# Altium footprint library WR-PHD_Socket Header_1.27mm.PcbLib: 24 footprints (part 1 of 2)
Each footprint in its own frame and in the unit in brackets; x right, y up, seen from the top. Pads: shape width x height; smd on the part's side, far side on the other; paste and mask are expansions set on the pad; w line width, h text height; cw(c..) or ccw(c..) is an arc to the next point about the centre after c.
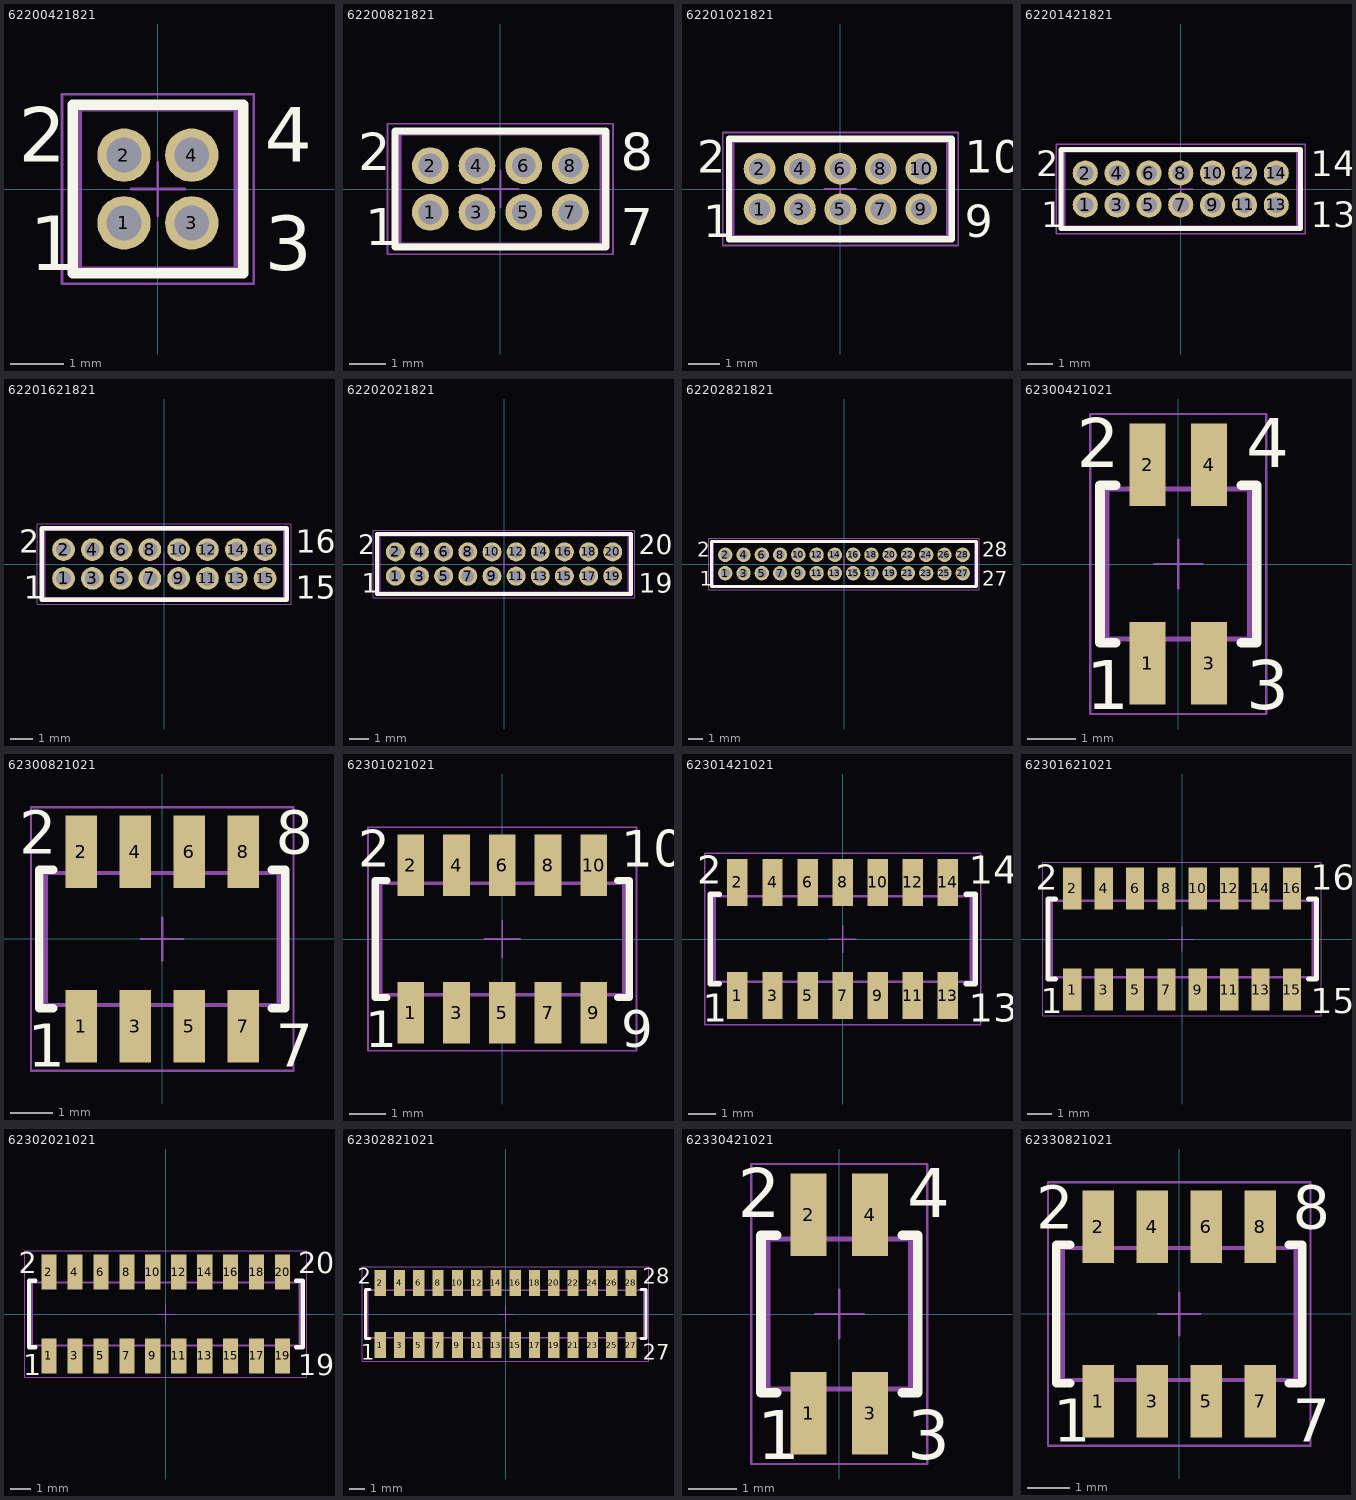
[diagram p0: the footprints below, top view; thin cyan lines are the x and y axes]

## 62200421821 [mm] "Socket Header, Pitch 1.27 mm, THT, Vertical, dual row, 4p"
height 4.65
pads (4):
  round 1 hole 0.65: 1(-0.635,-0.635) 2(-0.635,0.635) 3(0.635,-0.635) 4(0.635,0.635)
Top Overlay:
  lines w0.2: -1.595,-1.575 -1.595,1.575 1.595,1.575 1.595,-1.575 -1.595,-1.575
  text "1" at -2.4,-1.523 h1.02
  text "3" at 2,-1.523 h1.02
  text "2" at -2.6,0.507 h1.02
  text "4" at 2,0.507 h1.02
Mechanical 13:
  lines w0.1: -1.47,-1.5 1.47,-1.5 1.47,1.5 -1.47,1.5 -1.47,-1.5
Mechanical 15:
  lines w0.05: -0.5,0 0.5,0 ; 0,-0.5 0,0.5 ; -1.795,-1.775 -1.795,1.775 1.795,1.775 1.795,-1.775 -1.795,-1.775
3D body "62200421821.stp": height 4.55, standoff -2.15, extent -1.47,-1.5 1.47,1.5

## 62200821821 [mm] "Socket Header, Pitch 1.27 mm, THT, Vertical, dual row, 8p"
height 4.65
pads (8):
  round 1 hole 0.65: 1(-1.905,-0.635) 2(-1.905,0.635) 3(-0.635,-0.635) 4(-0.635,0.635) 5(0.635,-0.635) 6(0.635,0.635) 7(1.905,-0.635) 8(1.905,0.635)
Top Overlay:
  lines w0.2: -2.865,-1.575 -2.865,1.575 2.865,1.575 2.865,-1.575 -2.865,-1.575
  text "1" at -3.67,-1.523 h1.02
  text "2" at -3.87,0.507 h1.02
  text "8" at 3.27,0.507 h1.02
  text "7" at 3.27,-1.523 h1.02
Mechanical 13:
  lines w0.1: -2.74,-1.5 2.74,-1.5 2.74,1.5 -2.74,1.5 -2.74,-1.5
Mechanical 15:
  lines w0.05: -0.5,0 0.5,0 ; 0,-0.5 0,0.5 ; -3.065,-1.775 -3.065,1.775 3.065,1.775 3.065,-1.775 -3.065,-1.775
3D body "62200821821.stp": height 4.55, standoff -2.15, extent -2.74,-1.5 2.74,1.5

## 62201021821 [mm] "Socket Header, Pitch 1.27 mm, THT, Vertical, dual row, 10p"
height 4.65
pads (10):
  round 1 hole 0.65: 1(-2.54,-0.635) 2(-2.54,0.635) 3(-1.27,-0.635) 4(-1.27,0.635) 5(0,-0.635) 6(0,0.635) 7(1.27,-0.635) 8(1.27,0.635) 9(2.54,-0.635) 10(2.54,0.635)
Top Overlay:
  lines w0.2: -3.5,-1.575 3.5,-1.575 3.5,1.575 -3.5,1.575 -3.5,-1.575
  text "9" at 3.905,-1.523 h1.02
  text "10" at 3.905,0.507 h1.02
  text "2" at -4.505,0.507 h1.02
  text "1" at -4.305,-1.523 h1.02
Mechanical 13:
  lines w0.1: -3.375,-1.5 -3.375,1.5 3.375,1.5 3.375,-1.5 -3.375,-1.5
Mechanical 15:
  lines w0.05: -0.5,0 0.5,0 ; 0,-0.5 0,0.5 ; -3.7,-1.775 3.7,-1.775 3.7,1.775 -3.7,1.775 -3.7,-1.775
3D body "62201021821.stp": height 4.55, standoff -2.15, extent -3.375,-1.5 3.375,1.5

## 62201421821 [mm] "Socket Header, Pitch 1.27 mm, THT, Vertical, dual row, 14p"
height 4.65
pads (14):
  round 1 hole 0.65: 1(-3.81,-0.635) 2(-3.81,0.635) 3(-2.54,-0.635) 4(-2.54,0.635) 5(-1.27,-0.635) 6(-1.27,0.635) 7(0,-0.635) 8(0,0.635) 9(1.27,-0.635) 10(1.27,0.635) 11(2.54,-0.635) 12(2.54,0.635) 13(3.81,-0.635) 14(3.81,0.635)
Top Overlay:
  lines w0.2: -4.77,-1.575 4.77,-1.575 4.77,1.575 -4.77,1.575 -4.77,-1.575
  text "2" at -5.775,0.507 h1.02
  text "1" at -5.575,-1.523 h1.02
  text "14" at 5.175,0.507 h1.02
  text "13" at 5.175,-1.523 h1.02
Mechanical 13:
  lines w0.1: -4.645,-1.5 -4.645,1.5 4.645,1.5 4.645,-1.5 -4.645,-1.5
Mechanical 15:
  lines w0.05: -0.5,0 0.5,0 ; 0,-0.5 0,0.5 ; -4.97,-1.775 4.97,-1.775 4.97,1.775 -4.97,1.775 -4.97,-1.775
3D body "62201421821.stp": height 4.55, standoff -2.15, extent -4.645,-1.5 4.645,1.5

## 62201621821 [mm] "Socket Header, Pitch 1.27 mm, THT, Vertical, dual row, 16p"
height 4.65
pads (16):
  round 1 hole 0.65: 1(-4.445,-0.635) 2(-4.445,0.635) 3(-3.175,-0.635) 4(-3.175,0.635) 5(-1.905,-0.635) 6(-1.905,0.635) 7(-0.635,-0.635) 8(-0.635,0.635) 9(0.635,-0.635) 10(0.635,0.635) 11(1.905,-0.635) 12(1.905,0.635) 13(3.175,-0.635) 14(3.175,0.635) 15(4.445,-0.635) 16(4.445,0.635)
Top Overlay:
  lines w0.2: -5.405,-1.575 5.405,-1.575 5.405,1.575 -5.405,1.575 -5.405,-1.575
  text "15" at 5.81,-1.523 h1.02
  text "16" at 5.81,0.507 h1.02
  text "2" at -6.41,0.507 h1.02
  text "1" at -6.21,-1.523 h1.02
Mechanical 13:
  lines w0.1: -5.28,-1.5 -5.28,1.5 5.28,1.5 5.28,-1.5 -5.28,-1.5
Mechanical 15:
  lines w0.05: -0.5,0 0.5,0 ; 0,-0.5 0,0.5 ; -5.605,-1.775 5.605,-1.775 5.605,1.775 -5.605,1.775 -5.605,-1.775
3D body "62201621821.stp": height 4.55, standoff -2.15, extent -5.28,-1.5 5.28,1.5

## 62202021821 [mm] "Socket Header, Pitch 1.27 mm, THT, Vertical, dual row, 20p"
height 4.65
pads (20):
  round 1 hole 0.65: 1(-5.715,-0.635) 2(-5.715,0.635) 3(-4.445,-0.635) 4(-4.445,0.635) 5(-3.175,-0.635) 6(-3.175,0.635) 7(-1.905,-0.635) 8(-1.905,0.635) 9(-0.635,-0.635) 10(-0.635,0.635) 11(0.635,-0.635) 12(0.635,0.635) 13(1.905,-0.635) 14(1.905,0.635) 15(3.175,-0.635) 16(3.175,0.635) 17(4.445,-0.635) 18(4.445,0.635) 19(5.715,-0.635) 20(5.715,0.635)
Top Overlay:
  lines w0.2: -6.675,-1.575 -6.675,1.575 6.675,1.575 6.675,-1.575 -6.675,-1.575
  text "19" at 7.08,-1.523 h1.02
  text "20" at 7.08,0.507 h1.02
  text "1" at -7.48,-1.523 h1.02
  text "2" at -7.68,0.507 h1.02
Mechanical 13:
  lines w0.1: -6.55,-1.5 6.55,-1.5 6.55,1.5 -6.55,1.5 -6.55,-1.5
Mechanical 15:
  lines w0.05: -0.5,0 0.5,0 ; 0,-0.5 0,0.5 ; -6.875,-1.775 -6.875,1.775 6.875,1.775 6.875,-1.775 -6.875,-1.775
3D body "62202021821.stp": height 4.55, standoff -2.15, extent -6.55,-1.5 6.55,1.5

## 62202821821 [mm] "Socket Header, Pitch 1.27 mm, THT, Vertical, dual row, 28p"
height 4.65
pads (28):
  round 1 hole 0.65: 1(-8.255,-0.635) 2(-8.255,0.635) 3(-6.985,-0.635) 4(-6.985,0.635) 5(-5.715,-0.635) 6(-5.715,0.635) 7(-4.445,-0.635) 8(-4.445,0.635) 9(-3.175,-0.635) 10(-3.175,0.635) 11(-1.905,-0.635) 12(-1.905,0.635) 13(-0.635,-0.635) 14(-0.635,0.635) 15(0.635,-0.635) 16(0.635,0.635) 17(1.905,-0.635) 18(1.905,0.635) 19(3.175,-0.635) 20(3.175,0.635) 21(4.445,-0.635) 22(4.445,0.635) 23(5.715,-0.635) 24(5.715,0.635) 25(6.985,-0.635) 26(6.985,0.635) 27(8.255,-0.635) 28(8.255,0.635)
Top Overlay:
  lines w0.2: -9.215,-1.575 -9.215,1.575 9.215,1.575 9.215,-1.575 -9.215,-1.575
  text "27" at 9.62,-1.523 h1.02
  text "28" at 9.62,0.507 h1.02
  text "1" at -10.02,-1.523 h1.02
  text "2" at -10.22,0.507 h1.02
Mechanical 13:
  lines w0.1: -9.09,-1.5 9.09,-1.5 9.09,1.5 -9.09,1.5 -9.09,-1.5
Mechanical 15:
  lines w0.05: -0.5,0 0.5,0 ; 0,-0.5 0,0.5 ; -9.415,-1.775 -9.415,1.775 9.415,1.775 9.415,-1.775 -9.415,-1.775
3D body "62202821821.stp": height 4.55, standoff -2.15, extent -9.09,-1.5 9.09,1.5

## 62300421021 [mm] "Socket Header, Pitch 1.27 mm, SMT, Vertical, dual row, 4p"
height 4.7
pads (4):
  rect 0.74x1.7 smd: 1(-0.635,-2.05) 2(-0.635,2.05) 3(0.635,-2.05) 4(0.635,2.05)
Top Overlay:
  lines w0.2: -1.3,-1.625 -1.62,-1.625 -1.62,1.625 -1.3,1.625 ; 1.3,-1.625 1.62,-1.625 1.62,1.625 1.3,1.625
  text "1" at -1.9,-3 h1.02
  text "3" at 1.4,-3 h1.02
  text "2" at -2.1,2 h1.02
  text "4" at 1.4,2 h1.02
Mechanical 13:
  lines w0.1: -0.885,-1.55 -0.885,-2.3 -0.385,-2.3 -0.385,-1.55 ; -0.885,1.55 -0.885,2.3 -0.385,2.3 -0.385,1.55 ; 0.385,-1.55 0.385,-2.3 0.885,-2.3 0.885,-1.55 ; 0.385,1.55 0.385,2.3 0.885,2.3 0.885,1.55 ; -1.47,-1.55 -1.47,1.55 1.47,1.55 1.47,-1.55 -1.47,-1.55
Mechanical 15:
  lines w0.05: -0.5,0 0.5,0 ; 0,-0.5 0,0.5 ; -1.82,-3.1 1.82,-3.1 1.82,3.1 -1.82,3.1 -1.82,-3.1
3D body "62300421021.stp": height 4.6, standoff 0, extent -1.47,-2.299 1.47,2.299

## 62300821021 [mm] "Socket Header, Pitch 1.27 mm, SMT, Vertical, dual row, 8p"
height 4.7
pads (8):
  rect 0.74x1.7 smd: 1(-1.905,-2.05) 2(-1.905,2.05) 3(-0.635,-2.05) 4(-0.635,2.05) 5(0.635,-2.05) 6(0.635,2.05) 7(1.905,-2.05) 8(1.905,2.05)
Top Overlay:
  lines w0.2: -2.57,-1.625 -2.89,-1.625 -2.89,1.625 -2.57,1.625 ; 2.57,-1.625 2.89,-1.625 2.89,1.625 2.57,1.625
  text "8" at 2.67,2 h1.02
  text "7" at 2.67,-3 h1.02
  text "1" at -3.17,-3 h1.02
  text "2" at -3.37,2 h1.02
Mechanical 13:
  lines w0.1: -2.155,-1.55 -2.155,-2.3 -1.655,-2.3 -1.655,-1.55 ; -2.155,1.55 -2.155,2.3 -1.655,2.3 -1.655,1.55 ; -0.885,-1.55 -0.885,-2.3 -0.385,-2.3 -0.385,-1.55 ; -0.885,1.55 -0.885,2.3 -0.385,2.3 -0.385,1.55 ; 0.385,-1.55 0.385,-2.3 0.885,-2.3 0.885,-1.55 ; 0.385,1.55 0.385,2.3 0.885,2.3 0.885,1.55 ; 1.655,-1.55 1.655,-2.3 2.155,-2.3 2.155,-1.55 ; 1.655,1.55 1.655,2.3 2.155,2.3 2.155,1.55 ; -2.74,-1.55 -2.74,1.55 2.74,1.55 2.74,-1.55 -2.74,-1.55
Mechanical 15:
  lines w0.05: -0.5,0 0.5,0 ; 0,-0.5 0,0.5 ; -3.09,-3.1 3.09,-3.1 3.09,3.1 -3.09,3.1 -3.09,-3.1
3D body "62300821021.stp": height 4.6, standoff 0, extent -2.74,-2.299 2.74,2.299

## 62301021021 [mm] "Socket Header, Pitch 1.27 mm, SMT, Vertical, dual row, 10p"
height 4.7
pads (10):
  rect 0.74x1.7 smd: 1(-2.54,-2.05) 2(-2.54,2.05) 3(-1.27,-2.05) 4(-1.27,2.05) 5(0,-2.05) 6(0,2.05) 7(1.27,-2.05) 8(1.27,2.05) 9(2.54,-2.05) 10(2.54,2.05)
Top Overlay:
  lines w0.2: -3.205,-1.625 -3.525,-1.625 -3.525,1.625 -3.205,1.625 ; 3.205,-1.625 3.525,-1.625 3.525,1.625 3.205,1.625
  text "2" at -4.005,2 h1.02
  text "1" at -3.805,-3 h1.02
  text "9" at 3.305,-3 h1.02
  text "10" at 3.305,2 h1.02
Mechanical 13:
  lines w0.1: -2.79,-1.55 -2.79,-2.3 -2.29,-2.3 -2.29,-1.55 ; -2.79,1.55 -2.79,2.3 -2.29,2.3 -2.29,1.55 ; -1.52,-1.55 -1.52,-2.3 -1.02,-2.3 -1.02,-1.55 ; -1.52,1.55 -1.52,2.3 -1.02,2.3 -1.02,1.55 ; -0.25,-1.55 -0.25,-2.3 0.25,-2.3 0.25,-1.55 ; -0.25,1.55 -0.25,2.3 0.25,2.3 0.25,1.55 ; 1.02,-1.55 1.02,-2.3 1.52,-2.3 1.52,-1.55 ; 1.02,1.55 1.02,2.3 1.52,2.3 1.52,1.55 ; 2.29,-1.55 2.29,-2.3 2.79,-2.3 2.79,-1.55 ; 2.29,1.55 2.29,2.3 2.79,2.3 2.79,1.55 ; -3.375,-1.55 3.375,-1.55 3.375,1.55 -3.375,1.55 -3.375,-1.55
Mechanical 15:
  lines w0.05: -0.5,0 0.5,0 ; 0,-0.5 0,0.5 ; -3.725,-3.1 -3.725,3.1 3.725,3.1 3.725,-3.1 -3.725,-3.1
3D body "62301021021.stp": height 4.6, standoff 0, extent -3.375,-2.299 3.375,2.299

## 62301421021 [mm] "Socket Header, Pitch 1.27 mm, SMT, Vertical, dual row, 14p"
height 4.7
pads (14):
  rect 0.74x1.7 smd: 1(-3.81,-2.05) 2(-3.81,2.05) 3(-2.54,-2.05) 4(-2.54,2.05) 5(-1.27,-2.05) 6(-1.27,2.05) 7(0,-2.05) 8(0,2.05) 9(1.27,-2.05) 10(1.27,2.05) 11(2.54,-2.05) 12(2.54,2.05) 13(3.81,-2.05) 14(3.81,2.05)
Top Overlay:
  lines w0.2: -4.475,-1.625 -4.795,-1.625 -4.795,1.625 -4.475,1.625 ; 4.475,-1.625 4.795,-1.625 4.795,1.625 4.475,1.625
  text "1" at -5.075,-3 h1.02
  text "2" at -5.275,2 h1.02
  text "13" at 4.575,-3 h1.02
  text "14" at 4.575,2 h1.02
Mechanical 13:
  lines w0.1: -4.06,-1.55 -4.06,-2.3 -3.56,-2.3 -3.56,-1.55 ; -4.06,1.55 -4.06,2.3 -3.56,2.3 -3.56,1.55 ; -2.79,-1.55 -2.79,-2.3 -2.29,-2.3 -2.29,-1.55 ; -2.79,1.55 -2.79,2.3 -2.29,2.3 -2.29,1.55 ; -1.52,-1.55 -1.52,-2.3 -1.02,-2.3 -1.02,-1.55 ; -1.52,1.55 -1.52,2.3 -1.02,2.3 -1.02,1.55 ; -0.25,-1.55 -0.25,-2.3 0.25,-2.3 0.25,-1.55 ; -0.25,1.55 -0.25,2.3 0.25,2.3 0.25,1.55 ; 1.02,-1.55 1.02,-2.3 1.52,-2.3 1.52,-1.55 ; 1.02,1.55 1.02,2.3 1.52,2.3 1.52,1.55 ; 2.29,-1.55 2.29,-2.3 2.79,-2.3 2.79,-1.55 ; 2.29,1.55 2.29,2.3 2.79,2.3 2.79,1.55 ; 3.56,-1.55 3.56,-2.3 4.06,-2.3 4.06,-1.55 ; 3.56,1.55 3.56,2.3 4.06,2.3 4.06,1.55 ; -4.645,-1.55 -4.645,1.55 4.645,1.55 4.645,-1.55 -4.645,-1.55
Mechanical 15:
  lines w0.05: -0.5,0 0.5,0 ; 0,-0.5 0,0.5 ; -4.995,-3.1 4.995,-3.1 4.995,3.1 -4.995,3.1 -4.995,-3.1
3D body "62301421021.stp": height 4.6, standoff 0, extent -4.645,-2.299 4.645,2.299

## 62301621021 [mm] "Socket Header, Pitch 1.27 mm, SMT, Vertical, dual row, 16p"
height 4.7
pads (16):
  rect 0.74x1.7 smd: 1(-4.445,-2.05) 2(-4.445,2.05) 3(-3.175,-2.05) 4(-3.175,2.05) 5(-1.905,-2.05) 6(-1.905,2.05) 7(-0.635,-2.05) 8(-0.635,2.05) 9(0.635,-2.05) 10(0.635,2.05) 11(1.905,-2.05) 12(1.905,2.05) 13(3.175,-2.05) 14(3.175,2.05) 15(4.445,-2.05) 16(4.445,2.05)
Top Overlay:
  lines w0.2: -5.11,-1.625 -5.43,-1.625 -5.43,1.625 -5.11,1.625 ; 5.11,-1.625 5.43,-1.625 5.43,1.625 5.11,1.625
  text "1" at -5.71,-3 h1.02
  text "2" at -5.91,2 h1.02
  text "15" at 5.21,-3 h1.02
  text "16" at 5.21,2 h1.02
Mechanical 13:
  lines w0.1: -4.695,-1.55 -4.695,-2.3 -4.195,-2.3 -4.195,-1.55 ; -4.695,1.55 -4.695,2.3 -4.195,2.3 -4.195,1.55 ; -3.425,-1.55 -3.425,-2.3 -2.925,-2.3 -2.925,-1.55 ; -3.425,1.55 -3.425,2.3 -2.925,2.3 -2.925,1.55 ; -2.155,-1.55 -2.155,-2.3 -1.655,-2.3 -1.655,-1.55 ; -2.155,1.55 -2.155,2.3 -1.655,2.3 -1.655,1.55 ; -0.885,-1.55 -0.885,-2.3 -0.385,-2.3 -0.385,-1.55 ; -0.885,1.55 -0.885,2.3 -0.385,2.3 -0.385,1.55 ; 0.385,-1.55 0.385,-2.3 0.885,-2.3 0.885,-1.55 ; 0.385,1.55 0.385,2.3 0.885,2.3 0.885,1.55 ; 1.655,-1.55 1.655,-2.3 2.155,-2.3 2.155,-1.55 ; 1.655,1.55 1.655,2.3 2.155,2.3 2.155,1.55 ; 2.925,-1.55 2.925,-2.3 3.425,-2.3 3.425,-1.55 ; 2.925,1.55 2.925,2.3 3.425,2.3 3.425,1.55 ; 4.195,-1.55 4.195,-2.3 4.695,-2.3 4.695,-1.55 ; 4.195,1.55 4.195,2.3 4.695,2.3 4.695,1.55 ; -5.28,-1.55 -5.28,1.55 5.28,1.55 5.28,-1.55 -5.28,-1.55
Mechanical 15:
  lines w0.05: -0.5,0 0.5,0 ; 0,-0.5 0,0.5 ; -5.63,-3.1 5.63,-3.1 5.63,3.1 -5.63,3.1 -5.63,-3.1
3D body "62301621021.stp": height 4.6, standoff 0, extent -5.28,-2.299 5.28,2.299

## 62302021021 [mm] "Socket Header, Pitch 1.27 mm, SMT, Vertical, dual row, 20p"
height 4.7
pads (20):
  rect 0.74x1.7 smd: 1(-5.715,-2.05) 2(-5.715,2.05) 3(-4.445,-2.05) 4(-4.445,2.05) 5(-3.175,-2.05) 6(-3.175,2.05) 7(-1.905,-2.05) 8(-1.905,2.05) 9(-0.635,-2.05) 10(-0.635,2.05) 11(0.635,-2.05) 12(0.635,2.05) 13(1.905,-2.05) 14(1.905,2.05) 15(3.175,-2.05) 16(3.175,2.05) 17(4.445,-2.05) 18(4.445,2.05) 19(5.715,-2.05) 20(5.715,2.05)
Top Overlay:
  lines w0.2: -6.38,-1.625 -6.7,-1.625 -6.7,1.625 -6.38,1.625 ; 6.38,-1.625 6.7,-1.625 6.7,1.625 6.38,1.625
  text "2" at -7.18,2 h1.02
  text "1" at -6.98,-3 h1.02
  text "19" at 6.48,-3 h1.02
  text "20" at 6.48,2 h1.02
Mechanical 13:
  lines w0.1: -5.965,-1.55 -5.965,-2.3 -5.465,-2.3 -5.465,-1.55 ; -5.965,1.55 -5.965,2.3 -5.465,2.3 -5.465,1.55 ; -4.695,-1.55 -4.695,-2.3 -4.195,-2.3 -4.195,-1.55 ; -4.695,1.55 -4.695,2.3 -4.195,2.3 -4.195,1.55 ; -3.425,-1.55 -3.425,-2.3 -2.925,-2.3 -2.925,-1.55 ; -3.425,1.55 -3.425,2.3 -2.925,2.3 -2.925,1.55 ; -2.155,-1.55 -2.155,-2.3 -1.655,-2.3 -1.655,-1.55 ; -2.155,1.55 -2.155,2.3 -1.655,2.3 -1.655,1.55 ; -0.885,-1.55 -0.885,-2.3 -0.385,-2.3 -0.385,-1.55 ; -0.885,1.55 -0.885,2.3 -0.385,2.3 -0.385,1.55 ; 0.385,-1.55 0.385,-2.3 0.885,-2.3 0.885,-1.55 ; 0.385,1.55 0.385,2.3 0.885,2.3 0.885,1.55 ; 1.655,-1.55 1.655,-2.3 2.155,-2.3 2.155,-1.55 ; 1.655,1.55 1.655,2.3 2.155,2.3 2.155,1.55 ; 2.925,-1.55 2.925,-2.3 3.425,-2.3 3.425,-1.55 ; 2.925,1.55 2.925,2.3 3.425,2.3 3.425,1.55 ; 4.195,-1.55 4.195,-2.3 4.695,-2.3 4.695,-1.55 ; 4.195,1.55 4.195,2.3 4.695,2.3 4.695,1.55 ; 5.465,-1.55 5.465,-2.3 5.965,-2.3 5.965,-1.55 ; 5.465,1.55 5.465,2.3 5.965,2.3 5.965,1.55 ; -6.55,-1.55 6.55,-1.55 6.55,1.55 -6.55,1.55 -6.55,-1.55
Mechanical 15:
  lines w0.05: -0.5,0 0.5,0 ; 0,-0.5 0,0.5 ; -6.9,-3.1 -6.9,3.1 6.9,3.1 6.9,-3.1 -6.9,-3.1
3D body "62302021021.stp": height 4.6, standoff 0, extent -6.55,-2.299 6.55,2.299

## 62302821021 [mm] "Socket Header, Pitch 1.27 mm, SMT, Vertical, dual row, 28p"
height 4.7
pads (28):
  rect 0.74x1.7 smd: 1(-8.255,-2.05) 2(-8.255,2.05) 3(-6.985,-2.05) 4(-6.985,2.05) 5(-5.715,-2.05) 6(-5.715,2.05) 7(-4.445,-2.05) 8(-4.445,2.05) 9(-3.175,-2.05) 10(-3.175,2.05) 11(-1.905,-2.05) 12(-1.905,2.05) 13(-0.635,-2.05) 14(-0.635,2.05) 15(0.635,-2.05) 16(0.635,2.05) 17(1.905,-2.05) 18(1.905,2.05) 19(3.175,-2.05) 20(3.175,2.05) 21(4.445,-2.05) 22(4.445,2.05) 23(5.715,-2.05) 24(5.715,2.05) 25(6.985,-2.05) 26(6.985,2.05) 27(8.255,-2.05) 28(8.255,2.05)
Top Overlay:
  lines w0.2: -8.92,-1.625 -9.24,-1.625 -9.24,1.625 -8.92,1.625 ; 8.92,-1.625 9.24,-1.625 9.24,1.625 8.92,1.625
  text "1" at -9.52,-3 h1.02
  text "2" at -9.72,2 h1.02
  text "27" at 9.02,-3 h1.02
  text "28" at 9.02,2 h1.02
Mechanical 13:
  lines w0.1: -8.505,-1.55 -8.505,-2.3 -8.005,-2.3 -8.005,-1.55 ; -8.505,1.55 -8.505,2.3 -8.005,2.3 -8.005,1.55 ; -7.235,-1.55 -7.235,-2.3 -6.735,-2.3 -6.735,-1.55 ; -7.235,1.55 -7.235,2.3 -6.735,2.3 -6.735,1.55 ; -5.965,-1.55 -5.965,-2.3 -5.465,-2.3 -5.465,-1.55 ; -5.965,1.55 -5.965,2.3 -5.465,2.3 -5.465,1.55 ; -4.695,-1.55 -4.695,-2.3 -4.195,-2.3 -4.195,-1.55 ; -4.695,1.55 -4.695,2.3 -4.195,2.3 -4.195,1.55 ; -3.425,-1.55 -3.425,-2.3 -2.925,-2.3 -2.925,-1.55 ; -3.425,1.55 -3.425,2.3 -2.925,2.3 -2.925,1.55 ; -2.155,-1.55 -2.155,-2.3 -1.655,-2.3 -1.655,-1.55 ; -2.155,1.55 -2.155,2.3 -1.655,2.3 -1.655,1.55 ; -0.885,-1.55 -0.885,-2.3 -0.385,-2.3 -0.385,-1.55 ; -0.885,1.55 -0.885,2.3 -0.385,2.3 -0.385,1.55 ; 0.385,-1.55 0.385,-2.3 0.885,-2.3 0.885,-1.55 ; 0.385,1.55 0.385,2.3 0.885,2.3 0.885,1.55 ; 1.655,-1.55 1.655,-2.3 2.155,-2.3 2.155,-1.55 ; 1.655,1.55 1.655,2.3 2.155,2.3 2.155,1.55 ; 2.925,-1.55 2.925,-2.3 3.425,-2.3 3.425,-1.55 ; 2.925,1.55 2.925,2.3 3.425,2.3 3.425,1.55 ; 4.195,-1.55 4.195,-2.3 4.695,-2.3 4.695,-1.55 ; 4.195,1.55 4.195,2.3 4.695,2.3 4.695,1.55 ; 5.465,-1.55 5.465,-2.3 5.965,-2.3 5.965,-1.55 ; 5.465,1.55 5.465,2.3 5.965,2.3 5.965,1.55 ; 6.735,-1.55 6.735,-2.3 7.235,-2.3 7.235,-1.55 ; 6.735,1.55 6.735,2.3 7.235,2.3 7.235,1.55 ; 8.005,-1.55 8.005,-2.3 8.505,-2.3 8.505,-1.55 ; 8.005,1.55 8.005,2.3 8.505,2.3 8.505,1.55 ; -9.09,-1.55 -9.09,1.55 9.09,1.55 9.09,-1.55 -9.09,-1.55
Mechanical 15:
  lines w0.05: -0.5,0 0.5,0 ; 0,-0.5 0,0.5 ; -9.44,-3.1 9.44,-3.1 9.44,3.1 -9.44,3.1 -9.44,-3.1
3D body "62302821021.stp": height 4.6, standoff 0, extent -9.09,-2.299 9.09,2.299

## 62330421021 [mm] "Socket Header, Pitch 1.27 mm, SMT, Vertical, dual row, 4p"
height 4.7
pads (4):
  rect 0.74x1.7 smd: 1(-0.635,-2.05) 2(-0.635,2.05) 3(0.635,-2.05) 4(0.635,2.05)
Top Overlay:
  lines w0.2: -1.3,-1.625 -1.62,-1.625 -1.62,1.625 -1.3,1.625 ; 1.3,-1.625 1.62,-1.625 1.62,1.625 1.3,1.625
  text "1" at -1.7,-3 h1.02
  text "3" at 1.4,-3 h1.02
  text "2" at -2.1,2 h1.02
  text "4" at 1.4,2 h1.02
Mechanical 13:
  lines w0.1: -0.885,-1.55 -0.885,-2.3 -0.385,-2.3 -0.385,-1.55 ; -0.885,1.55 -0.885,2.3 -0.385,2.3 -0.385,1.55 ; 0.385,-1.55 0.385,-2.3 0.885,-2.3 0.885,-1.55 ; 0.385,1.55 0.385,2.3 0.885,2.3 0.885,1.55 ; -1.47,-1.55 -1.47,1.55 1.47,1.55 1.47,-1.55 -1.47,-1.55
Mechanical 15:
  lines w0.05: -0.5,0 0.5,0 ; 0,-0.5 0,0.5 ; -1.82,-3.1 -1.82,3.1 1.82,3.1 1.82,-3.1 -1.82,-3.1
3D body "62330421021.stp": height 4.69, standoff -0.01, extent -1.5,-2.299 1.5,2.299

## 62330821021 [mm] "Socket Header, Pitch 1.27 mm, SMT, Vertical, dual row, 8p"
height 4.7
pads (8):
  rect 0.74x1.7 smd: 1(-1.905,-2.05) 2(-1.905,2.05) 3(-0.635,-2.05) 4(-0.635,2.05) 5(0.635,-2.05) 6(0.635,2.05) 7(1.905,-2.05) 8(1.905,2.05)
Top Overlay:
  lines w0.2: -2.57,-1.625 -2.89,-1.625 -2.89,1.625 -2.57,1.625 ; 2.57,-1.625 2.89,-1.625 2.89,1.625 2.57,1.625
  text "1" at -2.97,-3 h1.02
  text "2" at -3.37,2 h1.02
  text "7" at 2.67,-3 h1.02
  text "8" at 2.67,2 h1.02
Mechanical 13:
  lines w0.1: -2.155,-1.55 -2.155,-2.3 -1.655,-2.3 -1.655,-1.55 ; -2.155,1.55 -2.155,2.3 -1.655,2.3 -1.655,1.55 ; -0.885,-1.55 -0.885,-2.3 -0.385,-2.3 -0.385,-1.55 ; -0.885,1.55 -0.885,2.3 -0.385,2.3 -0.385,1.55 ; 0.385,-1.55 0.385,-2.3 0.885,-2.3 0.885,-1.55 ; 0.385,1.55 0.385,2.3 0.885,2.3 0.885,1.55 ; 1.655,-1.55 1.655,-2.3 2.155,-2.3 2.155,-1.55 ; 1.655,1.55 1.655,2.3 2.155,2.3 2.155,1.55 ; -2.74,-1.55 -2.74,1.55 2.74,1.55 2.74,-1.55 -2.74,-1.55
Mechanical 15:
  lines w0.05: -0.5,0 0.5,0 ; 0,-0.5 0,0.5 ; -3.09,-3.1 -3.09,3.1 3.09,3.1 3.09,-3.1 -3.09,-3.1
3D body "62330821021.stp": height 4.69, standoff -0.01, extent -2.74,-2.299 2.74,2.299